# Altium footprint library IC_Display_Driver.PcbLib: 2 footprints
Each footprint in its own frame and in the unit in brackets; x right, y up, seen from the top. Pads: shape width x height; smd on the part's side, far side on the other; paste and mask are expansions set on the pad; w line width, h text height; cw(c..) or ccw(c..) is an arc to the next point about the centre after c.
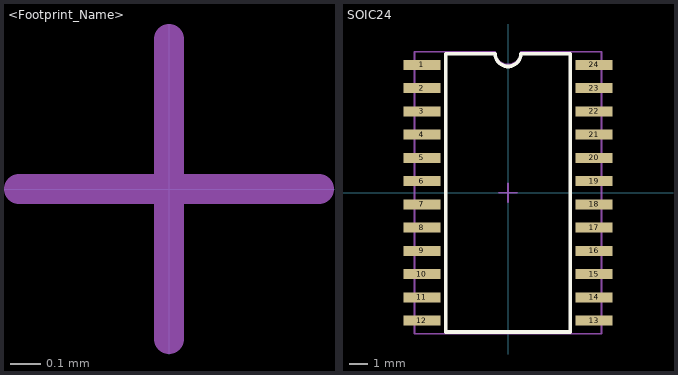
[diagram p0: the footprints below, top view; thin cyan lines are the x and y axes]

## <Footprint_Name> [mm] "<Package_Name>, <Number_of_pins>, <Pitch_in_mm>"
height 2.5
ReperDotTop:
  lines w0.1: -0.5,0 0.5,0 ; 0,-0.5 0,0.5
AssemblyOutlineTop:
  text "'.Designator'" at 0,0 h2.5

## SOIC24 [mm] "SOIC24 Package, 24 pins, Pitch 1.27mm"
height 2.5
pads (24):
  rect 2x0.55 smd: 1(-4.7,6.985) 2(-4.7,5.715) 3(-4.7,4.445) 4(-4.7,3.175) 5(-4.7,1.905) 6(-4.7,0.635) 7(-4.7,-0.635) 8(-4.7,-1.905) 9(-4.7,-3.175) 10(-4.7,-4.445) 11(-4.7,-5.715) 12(-4.7,-6.985) 13(4.7,-6.985) 14(4.7,-5.715) 15(4.7,-4.445) 16(4.7,-3.175) 17(4.7,-1.905) 18(4.7,-0.635) 19(4.7,0.635) 20(4.7,1.905) 21(4.7,3.175) 22(4.7,4.445) 23(4.7,5.715) 24(4.7,6.985)
Top Overlay:
  lines w0.2: -3.4,-7.6 3.4,-7.6 3.4,7.6 0.7,7.6 cw(c0,7.6) -0.7,7.6 -3.4,7.6 -3.4,-7.6
ReperDotTop:
  lines w0.1: -0.5,0 0.5,0 ; 0,-0.5 0,0.5
AssemblyOutlineTop:
  lines w0.1: -5.1,-7.7 5.1,-7.7 5.1,7.7 0.7,7.7 cw(c0,7.7) -0.7,7.7 -5.1,7.7 -5.1,-7.7
  text "'.Designator'" at 0,0 h2.5
3D body "User Library-SOIC24-300.step": height 2.65, standoff 0, extent -5.15,-7.75 5.15,7.75